# Altium footprint library SO.PcbLib: 10 footprints
Each footprint in its own frame and in the unit in brackets; x right, y up, seen from the top. Pads: shape width x height; smd on the part's side, far side on the other; paste and mask are expansions set on the pad; w line width, h text height; cw(c..) or ccw(c..) is an arc to the next point about the centre after c.
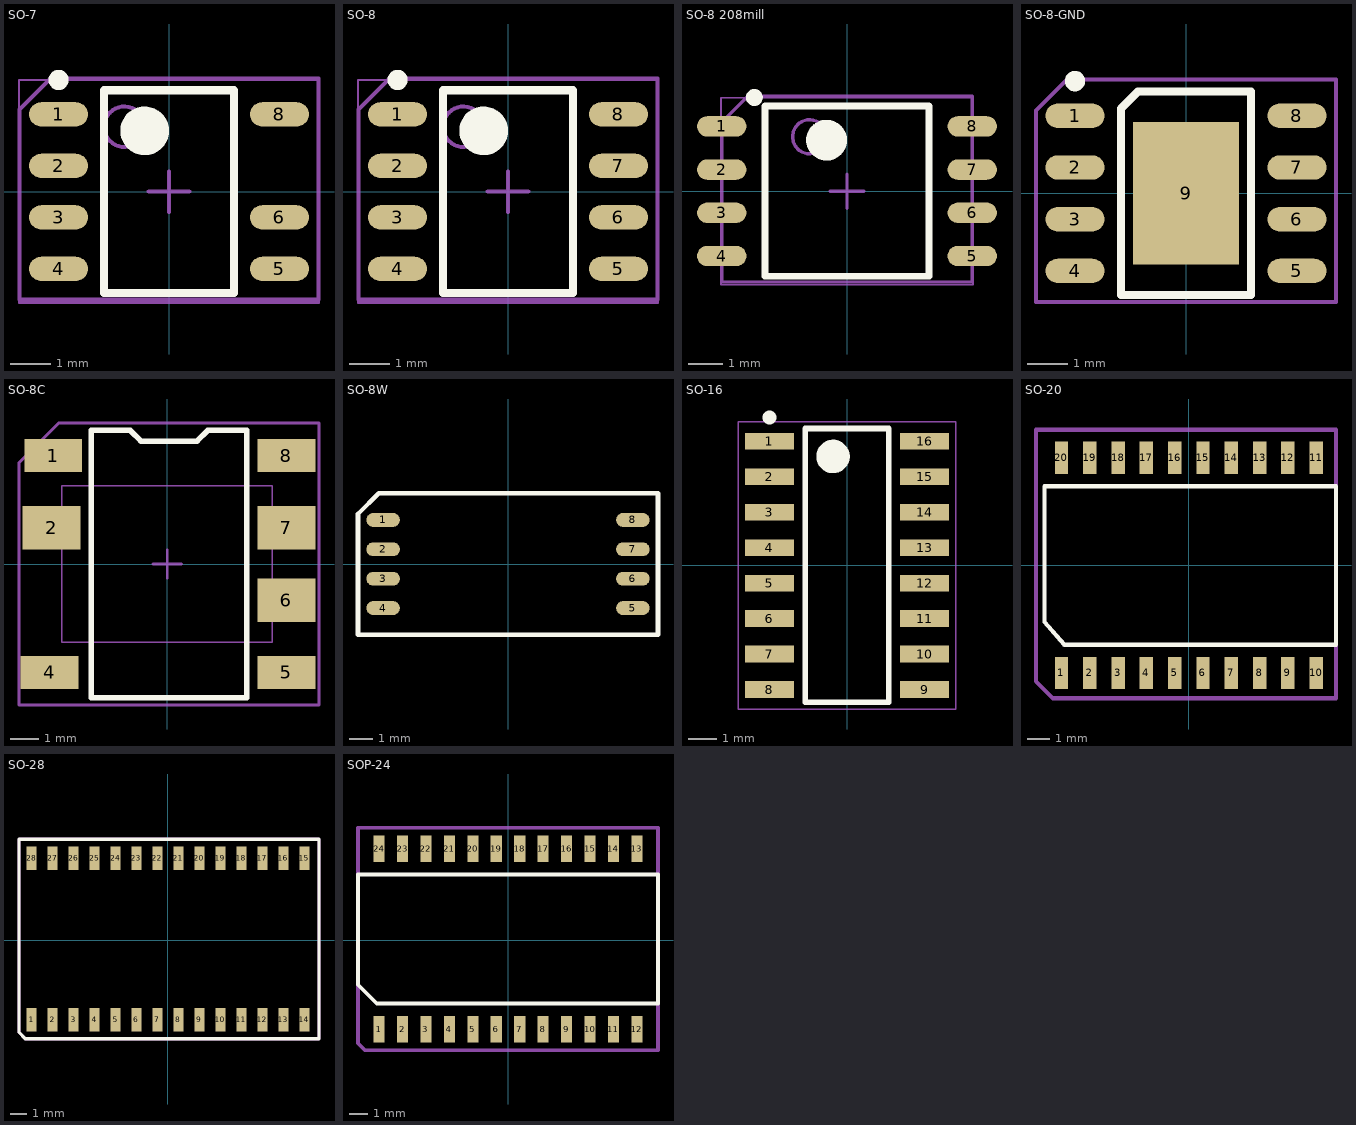
[diagram p0: the footprints below, top view; thin cyan lines are the x and y axes]

## SO-7 [mm]
height 1.75
pads (7):
  oval 1.45x0.6 smd: 1(-2.725,1.905) 2(-2.725,0.635) 3(-2.725,-0.635) 4(-2.725,-1.905) 5(2.725,-1.905) 6(2.725,-0.635) 8(2.725,1.905)
Top Overlay:
  circle w0.6: c-0.6,1.5 r0.3
  circle w0.25: c-2.725,2.755 r0.125
  lines w0.2: -1.6,-2.5 1.6,-2.5 1.6,2.5 -1.6,2.5 -1.6,-2.5
TopAssy:
  lines w0.1: -3.683,-2.667 3.683,-2.667 3.683,2.794 -2.921,2.794 -3.683,2.032 -3.683,-2.667
  text ".Designator" at -0.6,-0.4 h1.52
Mechanical 13:
  circle w0.1: c-1.1,1.6 r0.5
Mechanical 15:
  lines w0.05: -3.7,-2.75 3.7,-2.75 3.7,2.75 -3.7,2.75 -3.7,-2.75
  lines w0.1: -0.5,0 0.5,0 ; 0,-0.5 0,0.5
3D body "SOP-7.step": height 1.76, standoff 0, extent -3.126,-2.532 3.127,2.532

## SO-8 [mm]
height 1.75
pads (8):
  oval 1.45x0.6 smd: 1(-2.725,1.905) 2(-2.725,0.635) 3(-2.725,-0.635) 4(-2.725,-1.905) 5(2.725,-1.905) 6(2.725,-0.635) 7(2.725,0.635) 8(2.725,1.905)
Top Overlay:
  circle w0.25: c-2.725,2.755 r0.125
  circle w0.6: c-0.6,1.5 r0.3
  lines w0.2: -1.6,-2.5 -1.6,2.5 1.6,2.5 1.6,-2.5 -1.6,-2.5
TopAssy:
  lines w0.1: -3.683,-2.667 -3.683,2.032 -2.921,2.794 3.683,2.794 3.683,-2.667 -3.683,-2.667
  text ".Designator" at -0.6,-0.4 h1.52
Mechanical 13:
  circle w0.1: c-1.1,1.6 r0.5
Mechanical 15:
  lines w0.05: -3.7,-2.75 -3.7,2.75 3.7,2.75 3.7,-2.75 -3.7,-2.75
  lines w0.1: -0.5,0 0.5,0 ; 0,-0.5 0,0.5
3D body "SO-8.step": height 1.45, standoff 0, extent -2.889,-2.413 2.889,2.489

## SO-8 208mill [mm]
height 1.75
pads (8):
  oval 1.45x0.6 smd: 1(-3.683,1.905) 2(-3.683,0.635) 3(-3.683,-0.635) 4(-3.683,-1.905) 5(3.683,-1.905) 6(3.683,-0.635) 7(3.683,0.635) 8(3.683,1.905)
Top Overlay:
  circle w0.6: c-0.6,1.5 r0.3
  circle w0.25: c-2.725,2.755 r0.125
  lines w0.2: -2.413,-2.5 2.413,-2.5 2.413,2.5 -2.413,2.5 -2.413,-2.5
TopAssy:
  lines w0.1: -3.683,-2.667 3.683,-2.667 3.683,2.794 -2.921,2.794 -3.683,2.032 -3.683,-2.667
  text ".Designator" at -0.635,0.381 h1.52
Mechanical 13:
  circle w0.1: c-1.1,1.6 r0.5
Mechanical 15:
  lines w0.05: -3.7,-2.75 3.7,-2.75 3.7,2.75 -3.7,2.75 -3.7,-2.75
  lines w0.1: -0.5,0 0.5,0 ; 0,-0.5 0,0.5
3D body "SO-8_208mill.STEP": height 1.75, standoff -0.01, extent -4.052,-2.73 4.05,2.73

## SO-8-GND [mm]
height 1.75
pads (9):
  oval 1.45x0.6 smd: 1(-2.725,1.905) 2(-2.725,0.635) 3(-2.725,-0.635) 4(-2.725,-1.905) 5(2.725,-1.905) 6(2.725,-0.635) 7(2.725,0.635) 8(2.725,1.905)
  rect 2.6x3.5 smd: 9(0,0)
Top Overlay:
  circle w0.25: c-2.725,2.755 r0.125
  lines w0.2: -1.6,-2.5 1.6,-2.5 1.6,2.5 -1.183,2.5 -1.6,2.083 -1.6,-2.5
TopAssy:
  lines w0.1: -0.5,0 0.5,0 ; 0,-0.5 0,0.5 ; -3.683,-2.667 -3.683,2.032 -2.921,2.794 3.683,2.794 3.683,-2.667 -3.683,-2.667
  text ".Designator" at -0.6,-0.4 h1.52
3D body "SO-8.step": height 1.45, standoff 0, extent -2.889,-2.413 2.889,2.489

## SO-8C [mm]
height 1.75
pads (7):
  rect 2.03x1.17 smd: 1(-4.006,3.81) 4(-4.133,-3.81) 5(4.191,-3.81) 8(4.191,3.81)
  rect 2.03x1.52 smd: 2(-4.064,1.27) 6(4.191,-1.27) 7(4.191,1.27)
Top Overlay:
  lines w0.2: -2.667,-4.699 -2.667,4.699 -1.302,4.699 -0.921,4.318 1.048,4.318 1.429,4.699 2.794,4.699 2.794,-4.699 -2.667,-4.699
TopAssy:
  lines w0.1: -5.207,-4.953 -5.207,3.556 -3.81,4.953 5.334,4.953 5.334,-4.953 -5.207,-4.953
  text ".Designator" at -0.6,-0.4 h1.52
Mechanical 15:
  lines w0.05: -3.7,-2.75 -3.7,2.75 3.7,2.75 3.7,-2.75 -3.7,-2.75
  lines w0.1: -0.5,0 0.5,0 ; 0,-0.5 0,0.5
3D body "SMD-8C.step": height 4, standoff 0, extent -4.847,-4.925 4.953,4.925

## SO-8W [mm]
height 1.75
pads (8):
  oval 1.45x0.6 smd: 1(-5.392,1.905) 2(-5.392,0.635) 3(-5.392,-0.635) 4(-5.392,-1.905) 5(5.392,-1.905) 6(5.392,-0.635) 7(5.392,0.635) 8(5.392,1.905)
Top Overlay:
  lines w0.2: -6.477,-3.048 -6.477,2.159 -5.588,3.048 6.477,3.048 6.477,-3.048 -6.477,-3.048
TopAssy:
  lines w0.1: -6.477,-3.048 6.477,-3.048 6.477,3.048 -5.588,3.048 -6.477,2.159 -6.477,-3.048
  text ".Designator" at -3.175,-0.381 h1.52
3D body "SO-8W.step": height 2.7, standoff 0, extent -5.75,-2.95 5.75,2.95

## SO-16 [mm] "SOIC, 16-Leads, Body 9,90x3,90mm, Pitch 1,27mm, IPC Medium Density"
height 2.65
pads (16):
  rect 1.75x0.6 smd: 1(-2.775,4.445) 2(-2.775,3.175) 3(-2.775,1.905) 4(-2.775,0.635) 5(-2.775,-0.635) 6(-2.775,-1.905) 7(-2.775,-3.175) 8(-2.775,-4.445) 9(2.775,-4.445) 10(2.775,-3.175) 11(2.775,-1.905) 12(2.775,-0.635) 13(2.775,0.635) 14(2.775,1.905) 15(2.775,3.175) 16(2.775,4.445)
Top Overlay:
  circle w0.25: c-2.775,5.295 r0.125
  circle w0.6: c-0.5,3.9 r0.3
  lines w0.2: -1.5,-4.9 -1.5,4.9 1.5,4.9 1.5,-4.9 -1.5,-4.9
TopAssy:
  lines w0.05: -3.9,-5.15 -3.9,5.15 3.9,5.15 3.9,-5.15 -3.9,-5.15
  text ".Designator" at -1.397,-0.762 h1.52
3D body "SO-16.step": height 1.45, standoff 0, extent -2.984,-4.991 2.921,4.991

## SO-20 [mm]
pads (20):
  rect 0.6x1.45 smd: 1(-5.715,-4.826) 2(-4.445,-4.826) 3(-3.175,-4.826) 4(-1.905,-4.826) 5(-0.635,-4.826) 6(0.635,-4.826) 7(1.905,-4.826) 8(3.175,-4.826) 9(4.445,-4.826) 10(5.715,-4.826) 11(5.715,4.826) 12(4.445,4.826) 13(3.175,4.826) 14(1.905,4.826) 15(0.635,4.826) 16(-0.635,4.826) 17(-1.905,4.826) 18(-3.175,4.826) 19(-4.445,4.826) 20(-5.715,4.826)
Top Overlay:
  lines w0.2: -6.477,-2.54 -6.477,3.556 6.604,3.556 6.604,-3.556 -4.445,-3.556 -5.588,-3.556 -6.477,-2.54
TopAssy:
  lines w0.2: -6.858,-5.207 -6.858,6.096 6.604,6.096 6.604,-5.969 -6.096,-5.969 -6.858,-5.207
  text ".Designator" at -2.413,-0.635 h1.52
3D body "SO-20W.STEP": height 2.48, standoff 0, extent -6.343,-5.103 6.477,5.207

## SO-28 [mm]
pads (28):
  rect 0.6x1.45 smd: 1(-8.255,-4.826) 2(-6.985,-4.826) 3(-5.715,-4.826) 4(-4.445,-4.826) 5(-3.175,-4.826) 6(-1.905,-4.826) 7(-0.635,-4.826) 8(0.635,-4.826) 9(1.905,-4.826) 10(3.175,-4.826) 11(4.445,-4.826) 12(5.715,-4.826) 13(6.985,-4.826) 14(8.255,-4.826) 15(8.255,4.953) 16(6.985,4.953) 17(5.715,4.953) 18(4.445,4.953) 19(3.175,4.953) 20(1.905,4.953) 21(0.635,4.953) 22(-0.635,4.953) 23(-1.905,4.953) 24(-3.175,4.953) 25(-4.445,4.953) 26(-5.715,4.953) 27(-6.985,4.953) 28(-8.255,4.953)
Top Overlay:
  lines w0.2: -9.017,-5.588 -8.636,-5.969 9.144,-5.969 9.144,6.096 -9.017,6.096 -9.017,-5.588
TopAssy:
  lines w0.2: -9.017,-5.588 -9.017,6.096 9.144,6.096 9.144,-5.969 -8.636,-5.969 -9.017,-5.588
  text ".Designator" at -2.413,-0.635 h1.52
3D body "SO-28.STEP": height 2.59, standoff 0.01, extent -8.887,-5.223 8.887,5.313

## SOP-24 [mm]
pads (24):
  rect 0.6x1.45 smd: 1(-6.985,-4.826) 2(-5.715,-4.826) 3(-4.445,-4.826) 4(-3.175,-4.826) 5(-1.905,-4.826) 6(-0.635,-4.826) 7(0.635,-4.826) 8(1.905,-4.826) 9(3.175,-4.826) 10(4.445,-4.826) 11(5.715,-4.826) 12(6.985,-4.826) 13(6.985,4.953) 14(5.715,4.953) 15(4.445,4.953) 16(3.175,4.953) 17(1.905,4.953) 18(0.635,4.953) 19(-0.635,4.953) 20(-1.905,4.953) 21(-3.175,4.953) 22(-4.445,4.953) 23(-5.715,4.953) 24(-6.985,4.953)
Top Overlay:
  lines w0.2: -8.128,-2.413 -8.128,3.556 8.128,3.556 8.128,-3.429 -7.112,-3.429 -8.128,-2.413
TopAssy:
  lines w0.2: -8.128,-5.588 -7.747,-5.969 8.128,-5.969 8.128,6.096 -8.128,6.096 -8.128,-5.588
  text ".Designator" at -2.286,0 h1.52
3D body "SOP-24.STEP": height 1.9, standoff 0.03, extent -7.848,-5.334 7.849,5.131